# EAGLE library part ARDUINO-SHIELD (library Webmaster442)
Arduino Uno Rev. 3 shield symbol
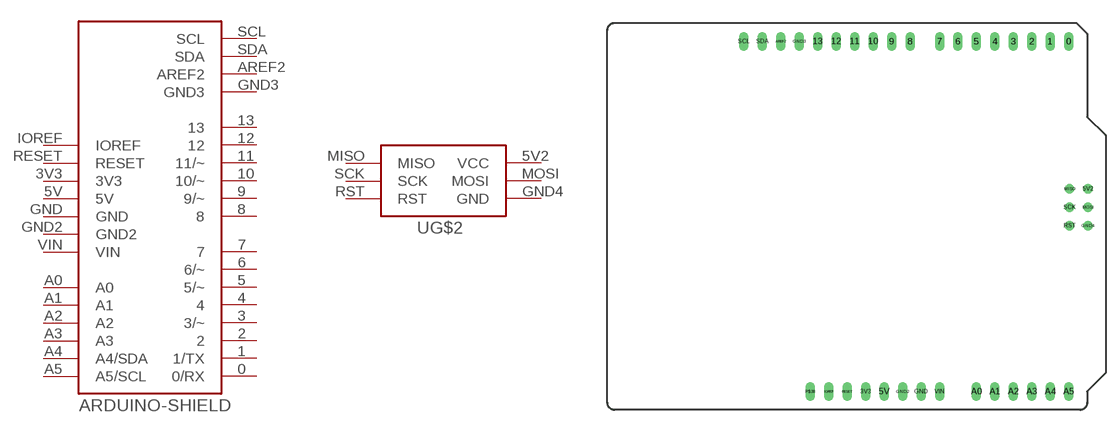
[diagram p10: symbol with the pads of ARDUINO-UNO-SHIELD; footprint ARDUINO-UNO-SHIELD]

Designator prefix -; gates G$1=ARDUINO-SHIELD G$2=AVRISP

## ARDUINO-SHIELD  [ARDUINO-UNO-SHIELD]
0  G$1:0/RX
1  G$1:1/TX
2  G$1:2
3  G$1:3/~
3V3  G$1:3V3
4  G$1:4
5  G$1:5/~
5V  G$1:5V
5V2  G$2:VCC  pwr
6  G$1:6/~
7  G$1:7
8  G$1:8
9  G$1:9/~
10  G$1:10/~
11  G$1:11/~
12  G$1:12
13  G$1:13
A0  G$1:A0
A1  G$1:A1
A2  G$1:A2
A3  G$1:A3
A4  G$1:A4/SDA
A5  G$1:A5/SCL
AREF2  G$1:AREF2
GND  G$1:GND
GND2  G$1:GND2
GND3  G$1:GND3
GND4  G$2:GND  pwr
IOREF  G$1:IOREF
MISO  G$2:MISO  in
MOSI  G$2:MOSI  out
RESET  G$1:RESET
RST  G$2:RST  out
SCK  G$2:SCK  out
SCL  G$1:SCL
SDA  G$1:SDA
VIN  G$1:VIN

## Footprint ARDUINO-UNO-SHIELD (pad centres in mm)
drill 0.8 long: 0 10.541,17.653; 1 8.001,17.653; 2 5.461,17.653; 3 2.921,17.653; 3V3 -17.399,-30.607; 4 0.381,17.653; 5 -2.159,17.653; 5V -14.859,-30.607; 6 -4.699,17.653; 7 -7.239,17.653; 8 -11.303,17.653; 9 -13.843,17.653; 10 -16.383,17.653; 11 -18.923,17.653; 12 -21.463,17.653; 13 -24.003,17.653; A0 -2.159,-30.607; A1 0.381,-30.607; A2 2.921,-30.607; A3 5.461,-30.607; A4 8.001,-30.607; A5 10.541,-30.607; AREF2 -29.083,17.653; GND -9.779,-30.607; GND2 -12.319,-30.607; GND3 -26.543,17.653; IOREF -22.479,-30.607; P$38 -25.019,-30.607; RESET -19.939,-30.607; SCL -34.163,17.653; SDA -31.623,17.653; VIN -7.239,-30.607
drill 0.8: 5V2 13.208,-2.667; GND4 13.208,-7.747; MISO 10.668,-2.667; MOSI 13.208,-5.207; RST 10.668,-7.747; SCK 10.668,-5.207